# Altium footprint library Дроссели.PcbLib: 9 footprints
Each footprint in its own frame and in the unit in brackets; x right, y up, seen from the top. Pads: shape width x height; smd on the part's side, far side on the other; paste and mask are expansions set on the pad; w line width, h text height; cw(c..) or ccw(c..) is an arc to the next point about the centre after c.
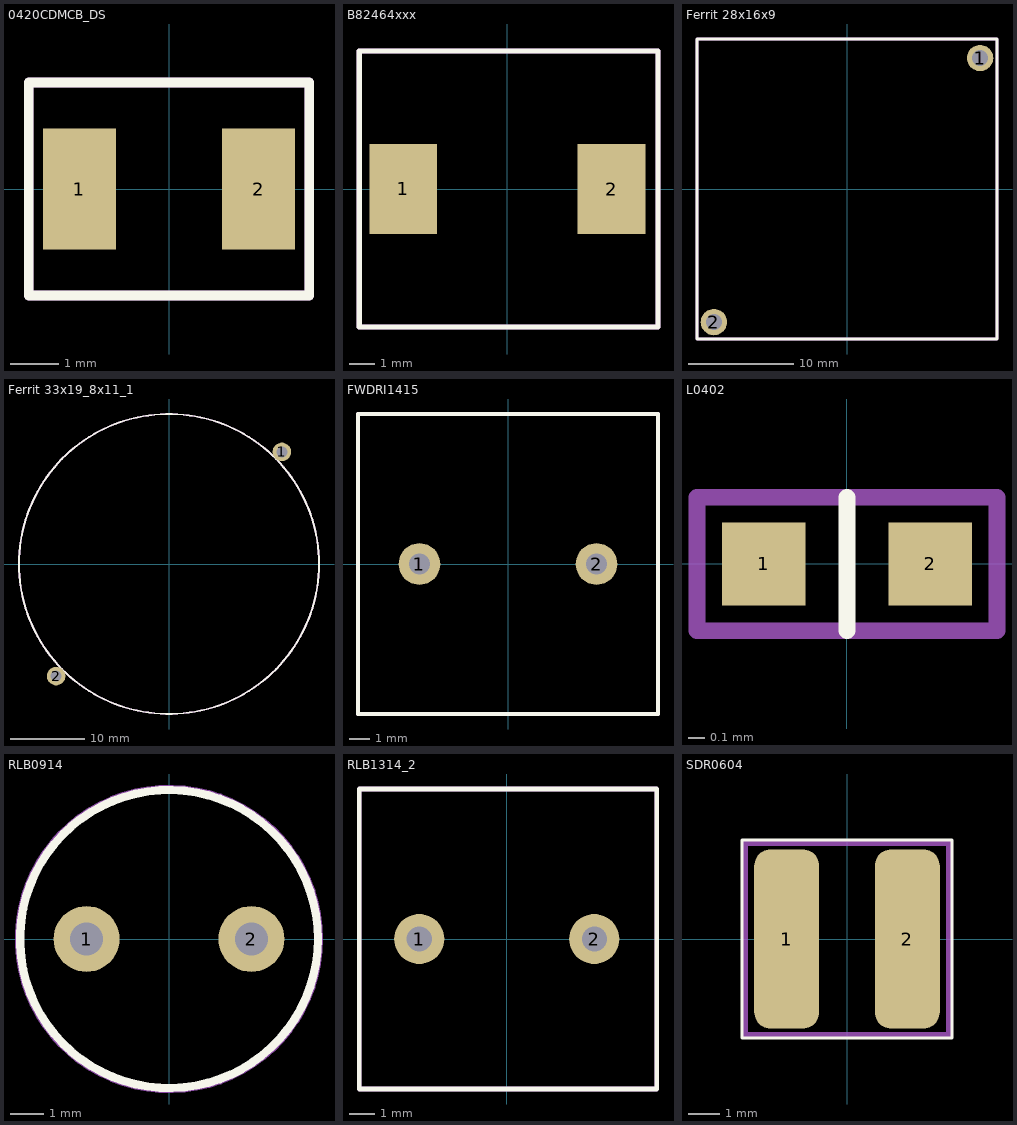
[diagram p0: the footprints below, top view; thin cyan lines are the x and y axes]

## 0420CDMCB_DS [mm]
pads (2):
  rect 1.5x2.5 smd: 1(-1.85,0) 2(1.85,0)
Top Overlay:
  lines w0.2: -2.9,-2.2 2.9,-2.2 2.9,2.2 2,2.2 -2.9,2.2 -2.9,-2.2
TopAssy:
  lines w0.2: -2.9,-2.2 -2.9,2.2 2,2.2 2.9,2.2 2.9,-2.2 -2.9,-2.2
  text ".Designator" at -2.4,0.2 h1.52
3D body "0420CDMCB_DS.step": height 1.91, standoff -0.01, extent -2.25,-2.05 2.25,2.05

## B82464xxx [mm]
pads (2):
  rect 2.7x3.6 smd: 1(-4.15,0) 2(4.15,0)
Top Overlay:
  lines w0.2: 6,5.4 6,5.5 ; 6,5.5 -5.9,5.5 -5.9,-5.5 -4.2,-5.5 6,-5.5 6,5.5
TopAssy:
  lines w0.2: -5.9,-5.5 6,-5.5 6,5.5 -5.9,5.5 -5.9,-5.5
  text ".Designator" at -2.4,0.1 h1.52
3D body "B82464G4.step": height 4.81, standoff 0, extent -5.2,-5.2 5.2,5.2

## Ferrit 28x16x9 [mm] "Ferrit 28x16x9"
pads (2):
  round 2.5 hole 1.5: 1(12.6,12.4) 2(-12.6,-12.6)
Top Overlay:
  lines w0.254: -14.2,-14.2 -14.2,14.2 14.2,14.2 14.2,-14.2 -14.2,-14.2
TopAssy:
  lines w0.254: -14.2,-14.2 14.2,-14.2 14.2,14.2 -14.2,14.2 -14.2,-14.2
3D body "28x16x9.stp": height 10, standoff 0, extent -14,-13.996 14,13.996

## Ferrit 33x19_8x11_1 [mm] "Ferrit 33x19_8x11_1"
pads (2):
  round 2.5 hole 1.5: 1(15.2,15.1) 2(-15.2,-15.1)
Top Overlay:
  circle w0.254: c0,0 r20.205
TopAssy:
  circle w0.254: c0,0 r20.205
  text ".Designator" at -4.7,4.4 h1.52
3D body "33x19_8x11_1.stp": height 11.1, standoff 0, extent -16.5,-16.495 16.5,16.496

## FWDRI1415 [mm]
pads (2):
  round 2 hole 1: 1(-4.25,0) 2(4.25,0)
Top Overlay:
  lines w0.2: -7.2,-7.2 7.2,-7.2 7.2,7.2 -7.2,7.2 -7.2,-7.2
TopAssy:
  lines w0.2: -7.2,-7.2 7.2,-7.2 7.2,7.2 -7.2,7.2 -7.2,-7.2
  text ".Designator" at -2,2.4 h1.52
3D body "FWDRI1415.STEP": height 15.8, standoff -3.1, extent -7.15,-7.15 7.15,7.15

## L0402 [mm]
pads (2):
  rect 0.5x0.5 smd: 1(-0.5,0) 2(0.5,0)
Top Overlay:
  lines w0.1: 0,-0.4 0,0.4
TopAssy:
  lines w0.1: -0.9,-0.4 -0.9,0.4 0.9,0.4 0.9,-0.4 -0.9,-0.4
  text ".Designator" at -0.5,-0.2 h1.52
3D body "User Library-d0402h025.step": height 0.25, standoff 0, extent -0.5,-0.25 0.5,0.25

## RLB0914 [mm]
pads (2):
  round 2 hole 1: 1(-2.5,0) 2(2.5,0)
Top Overlay:
  circle w0.254: c0,0 r4.518
TopAssy:
  circle w0.254: c0,0 r4.549
  text ".Designator" at -2.6,2.1 h1.52
3D body "RLB0914.STEP": height 12, standoff -2.13, extent -4.35,-4.35 4.35,4.35

## RLB1314_2 [mm]
pads (2):
  round 2 hole 1: 1(-3.5,0) 2(3.5,0)
Top Overlay:
  lines w0.2: -5.9,-6 -5.9,5.9 -5.9,6 6,6 6,-6 -5.9,-6
TopAssy:
  lines w0.2: -5.9,-6 -5.9,6 6,6 6,-6 -5.9,-6
  text ".Designator" at -2.6,2.1 h1.52
3D body "RLB1314_2.STEP": height 12, standoff -3, extent -5.85,-5.85 5.85,5.85

## SDR0604 [mm]
pads (2):
  rrect50% 2.1x5.8 smd: 1(-1.95,0) 2(1.95,0)
Top Overlay:
  lines w0.1: -3.4,-3.2 3.4,-3.2 3.4,3.2 -3.4,3.2 -3.4,-3.2
TopAssy:
  lines w0.2: -3.3,-3.1 3.3,-3.1 3.3,3.1 -3.3,3.1 -3.3,-3.1
  text ".Designator" at -2.9,-1.8 h1.52
3D body "sdr0604.stp": height 4.8, standoff 0, extent -2.9,-2.9 2.9,2.9